# Altium schematic symbol library 691 307 500 0xx.SchLib: 6 symbols
Pins are listed as number, name and electrical type; pins without a type are passive.

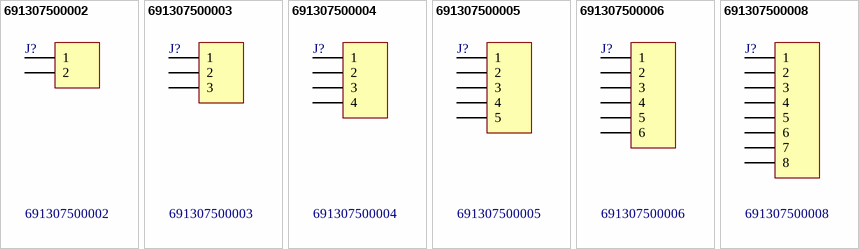
[diagram p0: symbols 691307500002 to 691307500008]

## 691307500002
designator J?
WR-TBL Terminal block - serie 3075; Manufacturer: Würth Elektronik eiSos GmbH; ComponentLink1 Description: Manufacturer; ComponentLink2 Description: Datasheet; NoPins: 02; Created Date: 09 April 2014; partNo: 691307500002; ComponentLink1URL: http://www.we-online.com; ComponentLink2URL: http://katalog.we-online.de/em/datasheet/6913075000xx.pdf; Created by: Karrer Zheng; Value: 691307500002
footprint 691307500002 (5.08 mm Reversed Gender Vertical PCB Header - 02p)
pins: 1, 2

## 691307500003
designator J?
WR-TBL Terminal block - serie 3075; Manufacturer: Würth Elektronik eiSos GmbH; ComponentLink1 Description: Manufacturer; ComponentLink2 Description: Datasheet; NoPins: 03; Created Date: 09 April 2014; partNo: 691307500003; ComponentLink1URL: http://www.we-online.com; ComponentLink2URL: http://katalog.we-online.de/em/datasheet/6913075000xx.pdf; Created by: Karrer Zheng; Value: 691307500003
footprint 691307500003 (5.08 mm Reversed Gender Vertical PCB Header - 03p)
pins: 1, 2, 3

## 691307500004
designator J?
WR-TBL Terminal block - serie 3075; Manufacturer: Würth Elektronik eiSos GmbH; ComponentLink1 Description: Manufacturer; ComponentLink2 Description: Datasheet; NoPins: 04; Created Date: 09 April 2014; partNo: 691307500004; ComponentLink1URL: http://www.we-online.com; ComponentLink2URL: http://katalog.we-online.de/em/datasheet/6913075000xx.pdf; Created by: Karrer Zheng; Value: 691307500004
footprint 691307500004 (5.08 mm Reversed Gender Vertical PCB Header - 04p)
pins: 1, 2, 3, 4

## 691307500005
designator J?
WR-TBL Terminal block - serie 3075; Manufacturer: Würth Elektronik eiSos GmbH; ComponentLink1 Description: Manufacturer; ComponentLink2 Description: Datasheet; NoPins: 05; Created Date: 09 April 2014; partNo: 691307500005; ComponentLink1URL: http://www.we-online.com; ComponentLink2URL: http://katalog.we-online.de/em/datasheet/6913075000xx.pdf; Created by: Karrer Zheng; Value: 691307500005
footprint 691307500005 (5.08 mm Reversed Gender Vertical PCB Header - 05p)
pins: 1, 2, 3, 4, 5

## 691307500006
designator J?
WR-TBL Terminal block - serie 3075; Manufacturer: Würth Elektronik eiSos GmbH; ComponentLink1 Description: Manufacturer; ComponentLink2 Description: Datasheet; NoPins: 06; Created Date: 09 April 2014; partNo: 691307500006; ComponentLink1URL: http://www.we-online.com; ComponentLink2URL: http://katalog.we-online.de/em/datasheet/6913075000xx.pdf; Created by: Karrer Zheng; Value: 691307500006
footprint 691307500006 (5.08 mm Reversed Gender Vertical PCB Header - 06p)
pins: 1, 2, 3, 4, 5, 6

## 691307500008
designator J?
WR-TBL Terminal block - serie 3075; Manufacturer: Würth Elektronik eiSos GmbH; ComponentLink1 Description: Manufacturer; ComponentLink2 Description: Datasheet; NoPins: 08; Created Date: 09 April 2014; partNo: 691307500008; ComponentLink1URL: http://www.we-online.com; ComponentLink2URL: http://katalog.we-online.de/em/datasheet/6913075000xx.pdf; Created by: Karrer Zheng; Value: 691307500008
footprint 691307500008 (5.08 mm Reversed Gender Vertical PCB Header - 08p)
pins: 1, 2, 3, 4, 5, 6, 7, 8